# Altium schematic symbol library RS2BE-10-G-SMT.SchLib: 1 symbol
Pins are listed as number, name and electrical type; pins without a type are passive.

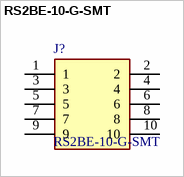
[diagram p0: symbol RS2BE-10-G-SMT]

## RS2BE-10-G-SMT
designator J?
Receptacle Strip 10P 2.54mm Pitch SMT; Manufacturer_Name: Adam Tech; Geometry.Height: 5.05mm; Manufacturer_Part_Number: RS2BE-10-G-SMT; Mouser Part Number: *; Mouser Price/Stock: *; Arrow Part Number: *; Arrow Price/Stock: *; Datasheet Link: *
footprint RS2BE10GSMT
pins: 1, 2, 3, 4, 5, 6, 7, 8, 9, 10